# EAGLE library part PCM3060PWR (library PCM3060PWR)
24-bit Asynchronous Stereo Audio Codec with 96/192kHz sampling rate Source: Datasheet <https://www.ti.com/lit/ds/symlink/pcm3060.pdf?ts=1606824200789&ref_url=https%3A%2F%2Fwww.ti.com%2Fstore%2Fti%2Fen%2Fp%2Fproduct%2F%3Fp%3DPCM3060PWR%26keyMatch%3DPCM3060PWR%26tisearch%3DSearch-EN-everything%26usecase%3DOPN>
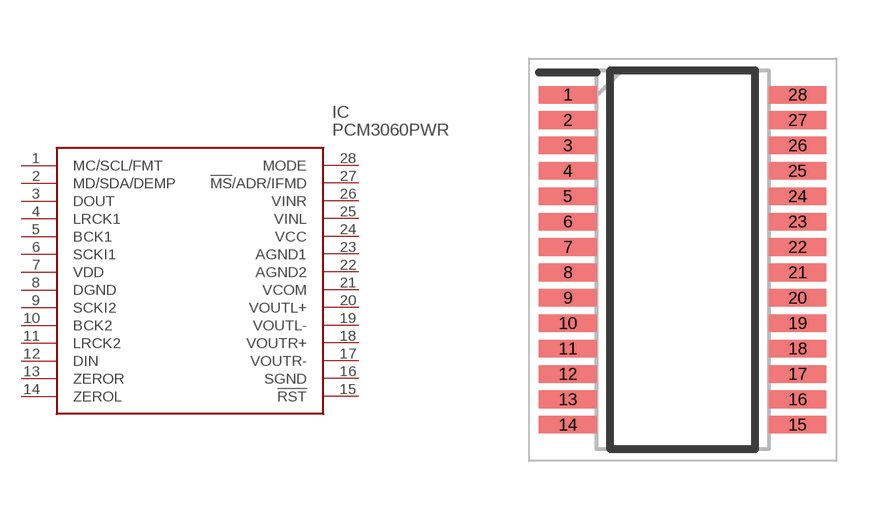
[diagram p0: symbol with the pads of SOP65P640X120-28N; footprint SOP65P640X120-28N]

Designator prefix IC

## PCM3060PWR (Arrow_Part_Number: PCM3060PWR; Arrow_Price-Stock: https://www.arrow.com/en/products/pcm3060pwr/texas-instruments?utm_currency=USD&region=nac; Description: 24-bit Asynchronous Stereo Audio Codec with 96/192kHz sampling rate; Height: 1.2mm; Manufacturer_Name: Texas Instruments; Manufacturer_Part_Number: PCM3060PWR; Mouser_Part_Number: 595-PCM3060PWR; Mouser_Price-Stock: https://www.mouser.co.uk/ProductDetail/Texas-Instruments/PCM3060PWR?qs=W5eanQMd1BA4oHiQoX9kuw%3D%3D)  [SOP65P640X120-28N]
1  MC/SCL/FMT
2  MD/SDA/DEMP
3  DOUT
4  LRCK1
5  BCK1
6  SCKI1
7  VDD
8  DGND
9  SCKI2
10  BCK2
11  LRCK2
12  DIN
13  ZEROR
14  ZEROL
15  !RST
16  SGND
17  VOUTR-
18  VOUTR+
19  VOUTL-
20  VOUTL+
21  VCOM
22  AGND2
23  AGND1
24  VCC
25  VINL
26  VINR
27  !MS!/ADR/IFMD
28  MODE

## Footprint SOP65P640X120-28N (pad centres in mm)
PW(R-PDSO-G28)
smd 1.475 x 0.45: 1 -2.938,4.225; 2 -2.938,3.575; 3 -2.938,2.925; 4 -2.938,2.275; 5 -2.938,1.625; 6 -2.938,0.975; 7 -2.938,0.325; 8 -2.938,-0.325; 9 -2.938,-0.975; 10 -2.938,-1.625; 11 -2.938,-2.275; 12 -2.938,-2.925; 13 -2.938,-3.575; 14 -2.938,-4.225; 15 2.938,-4.225; 16 2.938,-3.575; 17 2.938,-2.925; 18 2.938,-2.275; 19 2.938,-1.625; 20 2.938,-0.975; 21 2.938,-0.325; 22 2.938,0.325; 23 2.938,0.975; 24 2.938,1.625; 25 2.938,2.275; 26 2.938,2.925; 27 2.938,3.575; 28 2.938,4.225